# EAGLE library part VCNL3040 (library VCNL3040)
Proximity Sensor With Interrupt, IRED, and I2C Interface DESCRIPTION VCNL3040 integrates a proximity sensor (PS), and a high power IRED into one small package. It incorporates photodiodes, amplifiers, and analog to digital converting circuits into a single chip by CMOS process. PS programmable interrupt features of individual high and low thresholds offers the best utilization of resource and power saving on the microcontroller. The 12-bit / 16-bit proximity sensing function uses on intelligent cancellation scheme, so that cross talk phenomenon is eliminated effectively. To accelerate the PS response time, smart persistence prevents the misjudgment of proximity sensing but also keeps a fast response time. Active force mode, one time trigger by one instruction, is another good approach for more design flexibility to fulfill different kinds of applications with more power saving. PS functions are easily operated via the simple command format of I2C (SMBus compatible) interface protocol. Operating voltage ranges from 2.5 V to 3.6 V. VCNL3040 is packaged in a lead (Pb)-free 8 pin QFN package, which offers the best market-proven reliability quality. Datasheet <https://www.vishay.com/docs/84917/vcnl3040.pdf>
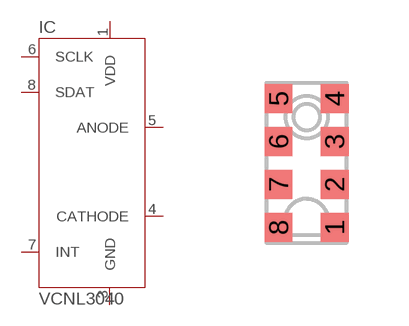
[diagram p0: symbol with the pads of VCNL3040; footprint VCNL3040]

Designator prefix IC

## VCNL3040  [VCNL3040]
1  VDD
3  GND
4  CATHODE
5  ANODE
6  SCLK
7  INT
8  SDAT

## Footprint VCNL3040 (pad centres in mm)
smd 0.7 x 0.725: 1 0.7,-1.613; 2 0.7,-0.537; 3 0.7,0.537; 4 0.7,1.613; 5 -0.7,1.613; 6 -0.7,0.537; 7 -0.7,-0.537; 8 -0.7,-1.613